# Altium footprint library 662103130822.PcbLib: 1 footprints
Each footprint in its own frame and in the unit in brackets; x right, y up, seen from the top. Pads: shape width x height; smd on the part's side, far side on the other; paste and mask are expansions set on the pad; w line width, h text height; cw(c..) or ccw(c..) is an arc to the next point about the centre after c.
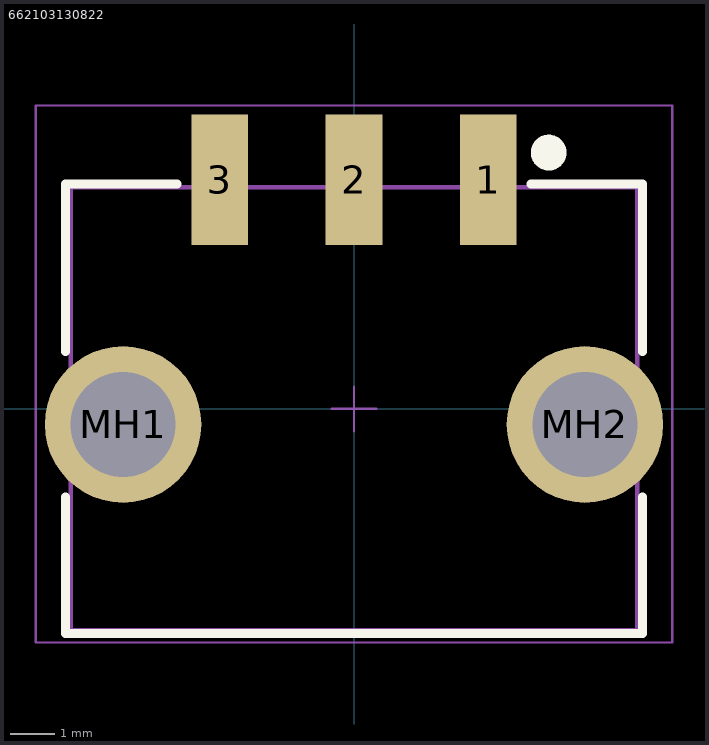
[diagram p0: the footprint, top view; thin cyan lines are the x and y axes]

## 662103130822 [mm] "3.00mm SMT Male Single Row Angled Header with THT Retention Clip, 3p"
height 5.57
pads (5):
  rect 1.27x2.92 smd: 1(3,5.12) 2(0,5.12) 3(-3,5.12)
  round 3.5 hole 2.35: MH1(-5.16,-0.35) MH2(5.16,-0.35)
Top Overlay:
  circle w0.4: c4.35,5.725 r0.2
  lines w0.2: -6.45,-1.975 -6.45,-5.025 6.45,-5.025 6.45,-1.975 ; -6.45,1.275 -6.45,5.025 -3.95,5.025 ; 3.95,5.025 6.45,5.025 6.45,1.275
Top Assembly:
  lines w0.1: -6.325,-4.95 -6.325,4.95 6.325,4.95 6.325,-4.95 -6.325,-4.95
Top Courtyard:
  lines w0.05: -0.5,0 0.5,0 ; 0,-0.5 0,0.5 ; -7.11,-5.225 -7.11,6.78 7.11,6.78 7.11,-5.225 -7.11,-5.225
3D body "662103130822.stp": height 5.61, standoff -2.01, extent -6.325,-4.95 6.325,6.398